# EAGLE library part BQ2057WSNTR (library BQ2057WSNTR)
Low Dropout Linear 2-cell Li-Ion Charge Controller with AutoCompTM, 8.4V Source: Datasheet <http://www.ti.com/lit/gpn/BQ2057W>
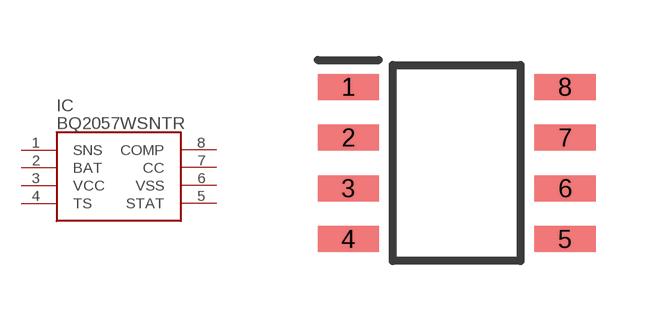
[diagram p0: symbol with the pads of SOIC127P600X175-8N; footprint SOIC127P600X175-8N]

Designator prefix IC

## BQ2057WSNTR (DESCRIPTION: Low Dropout Linear 2-cell Li-Ion Charge Controller with AutoCompTM, 8.4V; HEIGHT: 1.75mm; MANUFACTURER_NAME: Texas Instruments; MANUFACTURER_PART_NUMBER: BQ2057WSNTR; MOUSER_PART_NUMBER: 595-BQ2057WSNTR; MOUSER_PRICE-STOCK: https://www.mouser.com/Search/Refine.aspx?Keyword=595-BQ2057WSNTR)  [SOIC127P600X175-8N]
1  SNS
2  BAT
3  VCC
4  TS
5  STAT
6  VSS
7  CC
8  COMP

## Footprint SOIC127P600X175-8N (pad centres in mm)
soic d--
smd 1.528 x 0.65: 1 -2.711,1.905; 2 -2.711,0.635; 3 -2.711,-0.635; 4 -2.711,-1.905; 5 2.711,-1.905; 6 2.711,-0.635; 7 2.711,0.635; 8 2.711,1.905